# EAGLE library part GMAX0505 (library ICs)
1.1" 25MP Global Shutter CMOS Image Sensor
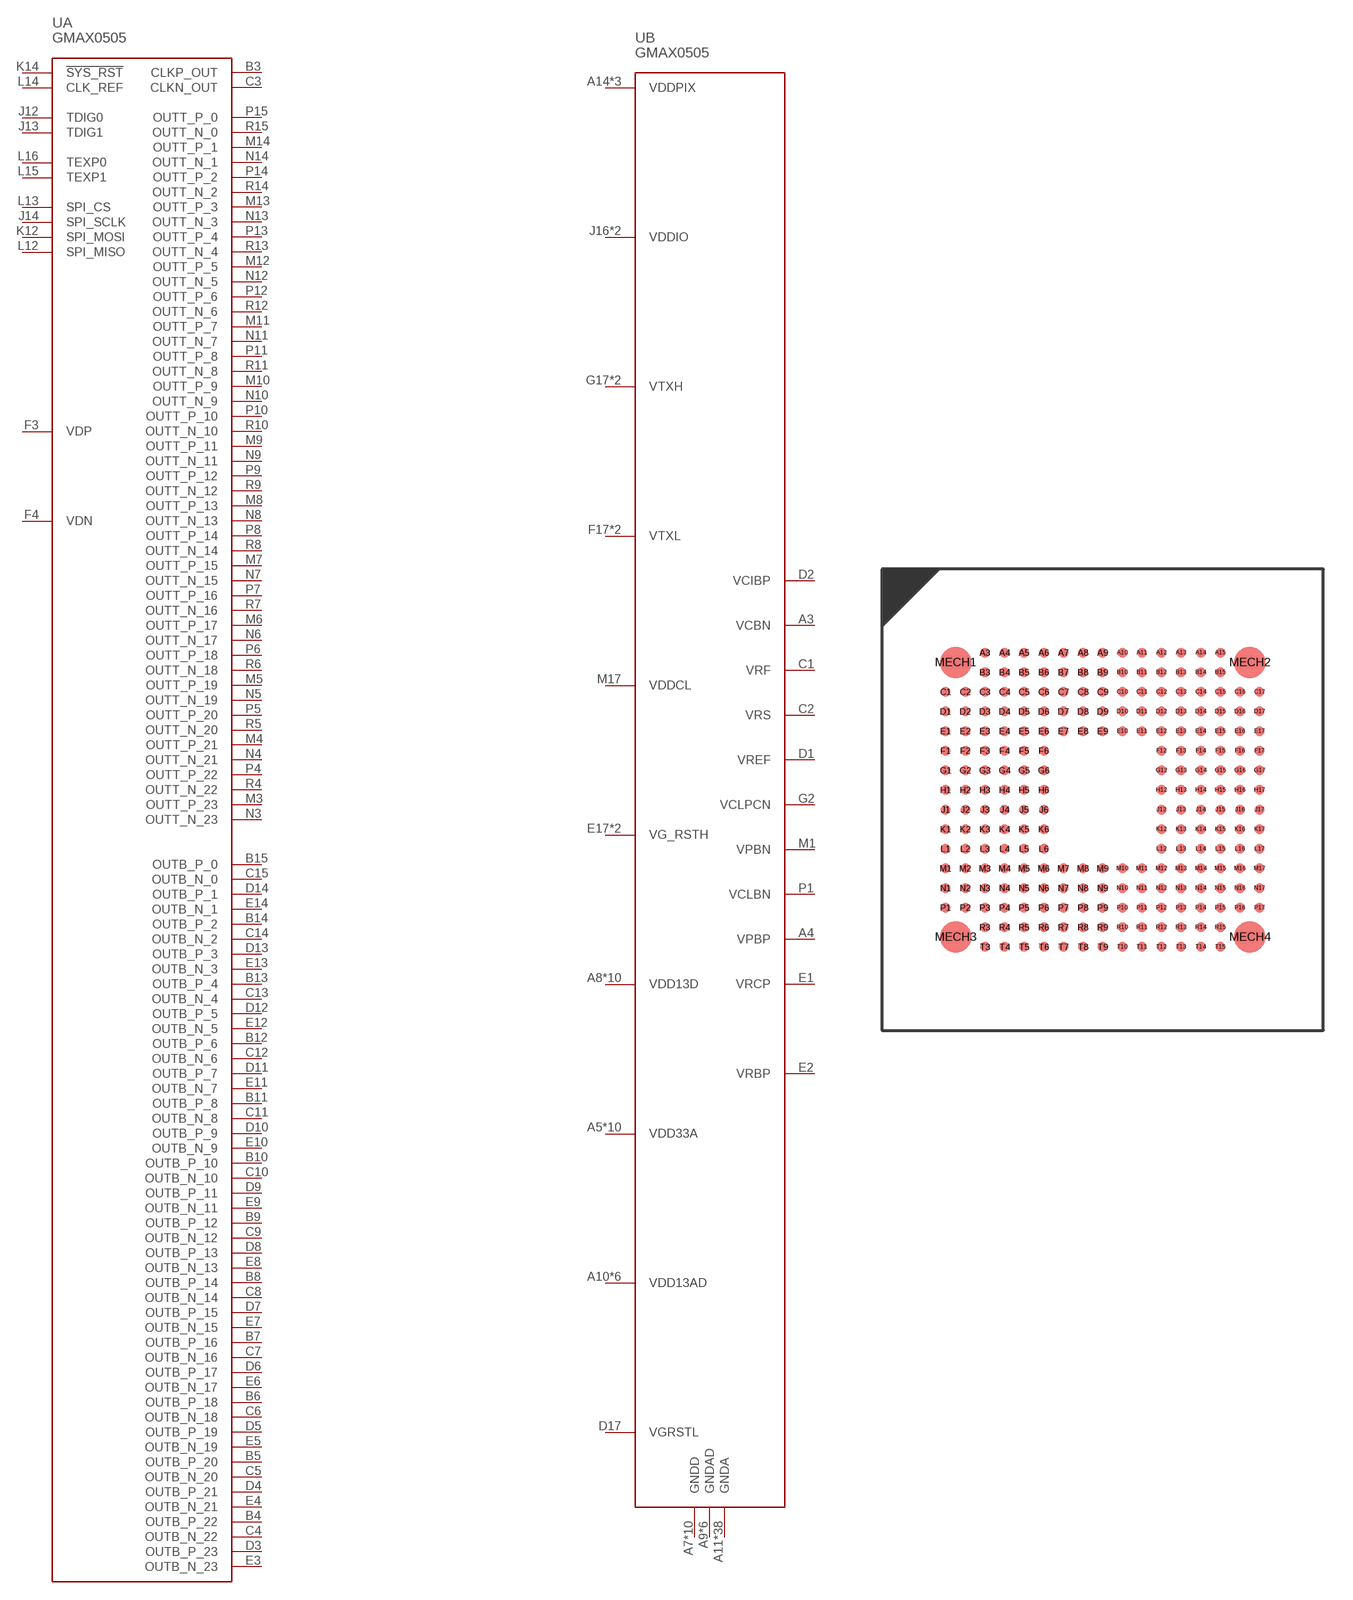
[diagram p261: symbol with the pads of GMAX0505; footprint GMAX0505]

Designator prefix U; gates A=GMAX0505_IO B=GMAX0505_PWR

## GMAX0505 (HEIGHT: 3.1; PRICE_PER: 300; VALUE: GMAX0505-DV)  [GMAX0505]
A3  B:VCBN
A4  B:VPBP
A5  B:VDD33A
A7  B:GNDD
A8  B:VDD13D
A9  B:GNDAD
A10  B:VDD13AD
A11  B:GNDA
A12  B:VDD33A
A13  B:GNDA
A14  B:VDDPIX
A15  B:VDD33A
B3  A:CLKP_OUT
B4  A:OUTB_P_22
B5  A:OUTB_P_20
B6  A:OUTB_P_18
B7  A:OUTB_P_16
B8  A:OUTB_P_14
B9  A:OUTB_P_12
B10  A:OUTB_P_10
B11  A:OUTB_P_8
B12  A:OUTB_P_6
B13  A:OUTB_P_4
B14  A:OUTB_P_2
B15  A:OUTB_P_0
C1  B:VRF
C2  B:VRS
C3  A:CLKN_OUT
C4  A:OUTB_N_22
C5  A:OUTB_N_20
C6  A:OUTB_N_18
C7  A:OUTB_N_16
C8  A:OUTB_N_14
C9  A:OUTB_N_12
C10  A:OUTB_N_10
C11  A:OUTB_N_8
C12  A:OUTB_N_6
C13  A:OUTB_N_4
C14  A:OUTB_N_2
C15  A:OUTB_N_0
C16  B:GNDAD
C17  B:VDD13AD
D1  B:VREF
D2  B:VCIBP
D3  A:OUTB_P_23
D4  A:OUTB_P_21
D5  A:OUTB_P_19
D6  A:OUTB_P_17
D7  A:OUTB_P_15
D8  A:OUTB_P_13
D9  A:OUTB_P_11
D10  A:OUTB_P_9
D11  A:OUTB_P_7
D12  A:OUTB_P_5
D13  A:OUTB_P_3
D14  A:OUTB_P_1
D16  B:VDD13AD
D17  B:VGRSTL
E1  B:VRCP
E2  B:VRBP
E3  A:OUTB_N_23
E4  A:OUTB_N_21
E5  A:OUTB_N_19
E6  A:OUTB_N_17
E7  A:OUTB_N_15
E8  A:OUTB_N_13
E9  A:OUTB_N_11
E10  A:OUTB_N_9
E11  A:OUTB_N_7
E12  A:OUTB_N_5
E13  A:OUTB_N_3
E14  A:OUTB_N_1
E16  B:GNDA
E17  B:VG_RSTH
F1  B:VDD33A
F3  A:VDP
F4  A:VDN
F5  B:GNDA
F6  B:GNDA
F12  B:GNDA
F13  B:GNDA
F14  B:GNDA
F15  B:GNDD
F16  B:VDD13D
F17  B:VTXL
G1  B:VDD33A
G2  B:VCLPCN
G3  B:GNDA
G4  B:GNDA
G5  B:GNDD
G6  B:VDD13D
G12  B:GNDA
G13  B:GNDA
G14  B:GNDA
G15  B:GNDA
G16  B:GNDA
G17  B:VTXH
H1  B:GNDD
H2  B:VDD13D
H3  B:GNDA
H4  B:GNDA
H5  B:GNDA
H6  B:GNDA
H12  B:GNDA
H13  B:GNDA
H14  B:GNDA
H15  B:GNDD
H16  B:VDD13D
H17  B:VTXL
J1  B:GNDAD
J2  B:VDD13AD
J3  B:GNDA
J4  B:GNDA
J5  B:GNDD
J6  B:VDD13D
J12  A:TDIG0
J13  A:TDIG1
J14  A:SPI_SCLK
J15  B:GNDAD
J16  B:VDDIO
J17  B:VTXH
K1  B:GNDD
K2  B:VDD13D
K3  B:GNDA
K4  B:GNDA
K5  B:GNDA
K6  B:GNDA
K12  A:SPI_MOSI
K13  B:VDDIO
K14  A:!SYS_RST
K15  B:GNDA
K16  B:VDD33A
K17  B:GNDA
L1  B:GNDA
L2  B:VDD33A
L3  B:GNDA
L4  B:GNDA
L5  B:GNDA
L6  B:VDD33A
L12  A:SPI_MISO
L13  A:SPI_CS
L14  A:CLK_REF
L15  A:TEXP1
L16  A:TEXP0
L17  B:VG_RSTH
M1  B:VPBN
M3  A:OUTT_P_23
M4  A:OUTT_P_21
M5  A:OUTT_P_19
M6  A:OUTT_P_17
M7  A:OUTT_P_15
M8  A:OUTT_P_13
M9  A:OUTT_P_11
M10  A:OUTT_P_9
M11  A:OUTT_P_7
M12  A:OUTT_P_5
M13  A:OUTT_P_3
M14  A:OUTT_P_1
M16  B:VDD33A
M17  B:VDDCL
N3  A:OUTT_N_23
N4  A:OUTT_N_21
N5  A:OUTT_N_19
N6  A:OUTT_N_17
N7  A:OUTT_N_15
N8  A:OUTT_N_13
N9  A:OUTT_N_11
N10  A:OUTT_N_9
N11  A:OUTT_N_7
N12  A:OUTT_N_5
N13  A:OUTT_N_3
N14  A:OUTT_N_1
N16  B:GNDA
N17  B:VDDPIX
P1  B:VCLBN
P2  B:GNDA
P4  A:OUTT_P_22
P5  A:OUTT_P_20
P6  A:OUTT_P_18
P7  A:OUTT_P_16
P8  A:OUTT_P_14
P9  A:OUTT_P_12
P10  A:OUTT_P_10
P11  A:OUTT_P_8
P12  A:OUTT_P_6
P13  A:OUTT_P_4
P14  A:OUTT_P_2
P15  A:OUTT_P_0
P16  B:GNDD
P17  B:VDD13D
R4  A:OUTT_N_22
R5  A:OUTT_N_20
R6  A:OUTT_N_18
R7  A:OUTT_N_16
R8  A:OUTT_N_14
R9  A:OUTT_N_12
R10  A:OUTT_N_10
R11  A:OUTT_N_8
R12  A:OUTT_N_6
R13  A:OUTT_N_4
R14  A:OUTT_N_2
R15  A:OUTT_N_0
T4  B:GNDD
T5  B:VDD13D
T6  B:GNDAD
T7  B:VDD13AD
T8  B:GNDA
T9  B:VDD33A
T10  B:GNDD
T11  B:VDD13D
T12  B:GNDAD
T13  B:VDD13AD
T14  B:GNDA
T15  B:VDDPIX

## Footprint GMAX0505 (pad centres in mm)
smd 0.5 x 0.5: A3 -6,7.5; A4 -5,7.5; A5 -4,7.5; A6 -3,7.5; A7 -2,7.5; A8 -1,7.5; A9 0,7.5; A10 1,7.5; A11 2,7.5; A12 3,7.5; A13 4,7.5; A14 5,7.5; A15 6,7.5; B3 -6,6.5; B4 -5,6.5; B5 -4,6.5; B6 -3,6.5; B7 -2,6.5; B8 -1,6.5; B9 0,6.5; B10 1,6.5; B11 2,6.5; B12 3,6.5; B13 4,6.5; B14 5,6.5; B15 6,6.5; C1 -8,5.5; C2 -7,5.5; C3 -6,5.5; C4 -5,5.5; C5 -4,5.5; C6 -3,5.5; C7 -2,5.5; C8 -1,5.5; C9 0,5.5; C10 1,5.5; C11 2,5.5; C12 3,5.5; C13 4,5.5; C14 5,5.5; C15 6,5.5; C16 7,5.5; C17 8,5.5; D1 -8,4.5; D2 -7,4.5; D3 -6,4.5; D4 -5,4.5; D5 -4,4.5; D6 -3,4.5; D7 -2,4.5; D8 -1,4.5; D9 0,4.5; D10 1,4.5; D11 2,4.5; D12 3,4.5; D13 4,4.5; D14 5,4.5; D15 6,4.5; D16 7,4.5; D17 8,4.5; E1 -8,3.5; E2 -7,3.5; E3 -6,3.5; E4 -5,3.5; E5 -4,3.5; E6 -3,3.5; E7 -2,3.5; E8 -1,3.5; E9 0,3.5; E10 1,3.5; E11 2,3.5; E12 3,3.5; E13 4,3.5; E14 5,3.5; E15 6,3.5; E16 7,3.5; E17 8,3.5; F1 -8,2.5; F2 -7,2.5; F3 -6,2.5; F4 -5,2.5; F5 -4,2.5; F6 -3,2.5; F12 3,2.5; F13 4,2.5; F14 5,2.5; F15 6,2.5; F16 7,2.5; F17 8,2.5; G1 -8,1.5; G2 -7,1.5; G3 -6,1.5; G4 -5,1.5; G5 -4,1.5; G6 -3,1.5; G12 3,1.5; G13 4,1.5; G14 5,1.5; G15 6,1.5; G16 7,1.5; G17 8,1.5; H1 -8,0.5; H2 -7,0.5; H3 -6,0.5; H4 -5,0.5; H5 -4,0.5; H6 -3,0.5; H12 3,0.5; H13 4,0.5; H14 5,0.5; H15 6,0.5; H16 7,0.5; H17 8,0.5; J1 -8,-0.5; J2 -7,-0.5; J3 -6,-0.5; J4 -5,-0.5; J5 -4,-0.5; J6 -3,-0.5; J12 3,-0.5; J13 4,-0.5; J14 5,-0.5; J15 6,-0.5; J16 7,-0.5; J17 8,-0.5; K1 -8,-1.5; K2 -7,-1.5; K3 -6,-1.5; K4 -5,-1.5; K5 -4,-1.5; K6 -3,-1.5; K12 3,-1.5; K13 4,-1.5; K14 5,-1.5; K15 6,-1.5; K16 7,-1.5; K17 8,-1.5; L1 -8,-2.5; L2 -7,-2.5; L3 -6,-2.5; L4 -5,-2.5; L5 -4,-2.5; L6 -3,-2.5; L12 3,-2.5; L13 4,-2.5; L14 5,-2.5; L15 6,-2.5; L16 7,-2.5; L17 8,-2.5; M1 -8,-3.5; M2 -7,-3.5; M3 -6,-3.5; M4 -5,-3.5; M5 -4,-3.5; M6 -3,-3.5; M7 -2,-3.5; M8 -1,-3.5; M9 0,-3.5; M10 1,-3.5; M11 2,-3.5; M12 3,-3.5; M13 4,-3.5; M14 5,-3.5; M15 6,-3.5; M16 7,-3.5; M17 8,-3.5; N1 -8,-4.5; N2 -7,-4.5; N3 -6,-4.5; N4 -5,-4.5; N5 -4,-4.5; N6 -3,-4.5; N7 -2,-4.5; N8 -1,-4.5; N9 0,-4.5; N10 1,-4.5; N11 2,-4.5; N12 3,-4.5; N13 4,-4.5; N14 5,-4.5; N15 6,-4.5; N16 7,-4.5; N17 8,-4.5; P1 -8,-5.5; P2 -7,-5.5; P3 -6,-5.5; P4 -5,-5.5; P5 -4,-5.5; P6 -3,-5.5; P7 -2,-5.5; P8 -1,-5.5; P9 0,-5.5; P10 1,-5.5; P11 2,-5.5; P12 3,-5.5; P13 4,-5.5; P14 5,-5.5; P15 6,-5.5; P16 7,-5.5; P17 8,-5.5; R3 -6,-6.5; R4 -5,-6.5; R5 -4,-6.5; R6 -3,-6.5; R7 -2,-6.5; R8 -1,-6.5; R9 0,-6.5; R10 1,-6.5; R11 2,-6.5; R12 3,-6.5; R13 4,-6.5; R14 5,-6.5; R15 6,-6.5; T3 -6,-7.5; T4 -5,-7.5; T5 -4,-7.5; T6 -3,-7.5; T7 -2,-7.5; T8 -1,-7.5; T9 0,-7.5; T10 1,-7.5; T11 2,-7.5; T12 3,-7.5; T13 4,-7.5; T14 5,-7.5; T15 6,-7.5
smd 1.6 x 1.6: MECH1 -7.5,7; MECH2 7.5,7; MECH3 -7.5,-7; MECH4 7.5,-7